# Altium footprint library IC.PcbLib: 15 footprints
Each footprint in its own frame and in the unit in brackets; x right, y up, seen from the top. Pads: shape width x height; smd on the part's side, far side on the other; paste and mask are expansions set on the pad; w line width, h text height; cw(c..) or ccw(c..) is an arc to the next point about the centre after c.
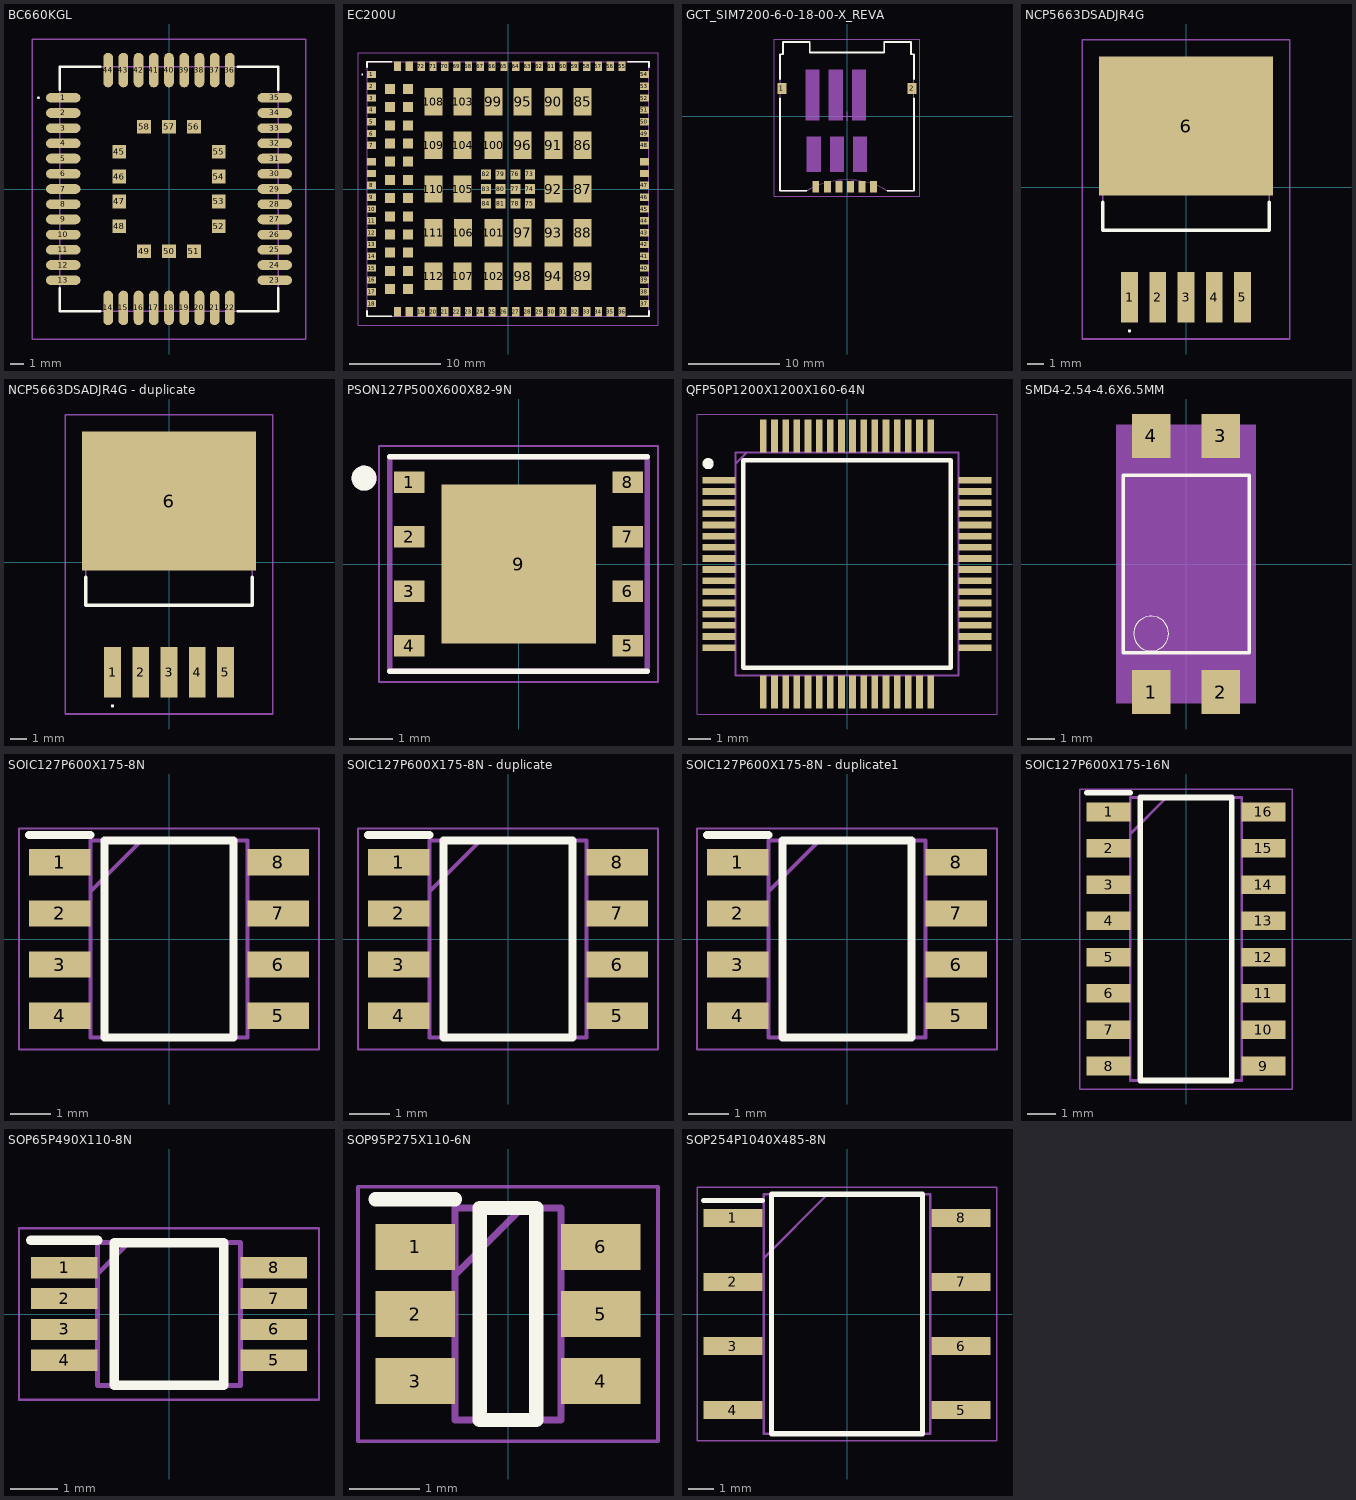
[diagram p0: the footprints below, top view; thin cyan lines are the x and y axes]

## BC660KGL [mm]
pads (58):
  oval 2.5x0.7 smd: 1(-7.65,6.6) 2(-7.65,5.5) 3(-7.65,4.4) 4(-7.65,3.3) 5(-7.65,2.2) 6(-7.65,1.1) 7(-7.65,0) 8(-7.65,-1.1) 9(-7.65,-2.2) 10(-7.65,-3.3) 11(-7.65,-4.4) 12(-7.65,-5.5) 13(-7.65,-6.6) 23(7.65,-6.6) 24(7.65,-5.5) 25(7.65,-4.4) 26(7.65,-3.3) 27(7.65,-2.2) 28(7.65,-1.1) 29(7.65,0) 30(7.65,1.1) 31(7.65,2.2) 32(7.65,3.3) 33(7.65,4.4) 34(7.65,5.5) 35(7.65,6.6)
  oval 0.7x2.5 smd: 14(-4.4,-8.6) 15(-3.3,-8.6) 16(-2.2,-8.6) 17(-1.1,-8.6) 18(0,-8.6) 19(1.1,-8.6) 20(2.2,-8.6) 21(3.3,-8.6) 22(4.4,-8.6) 36(4.4,8.6) 37(3.3,8.6) 38(2.2,8.6) 39(1.1,8.6) 40(0,8.6) 41(-1.1,8.6) 42(-2.2,8.6) 43(-3.3,8.6) 44(-4.4,8.6)
  rect 1x1 smd: 45(-3.6,2.7) 46(-3.6,0.9) 47(-3.6,-0.9) 48(-3.6,-2.7) 49(-1.8,-4.5) 50(0,-4.5) 51(1.8,-4.5) 52(3.6,-2.7) 53(3.6,-0.9) 54(3.6,0.9) 55(3.6,2.7) 56(1.8,4.5) 57(0,4.5) 58(-1.8,4.5)
Top Overlay:
  lines w0.1: -9.5,6.6 cw(c-9.45,6.6) -9.4,6.6 cw(c-9.45,6.6) -9.5,6.6
  lines w0.2: -7.9,-7.2 -7.9,-8.85 -5,-8.85 ; -7.9,7.2 -7.9,8.85 -5,8.85 ; 5,-8.85 7.9,-8.85 7.9,-7.2 ; 5,8.85 7.9,8.85 7.9,7.2
Mechanical 15:
  lines w0.1: -7.9,-8.85 7.9,-8.85 7.9,8.85 -7.9,8.85 -7.9,-8.85
Mechanical 20:
  lines w0.1: -9.9,-10.85 9.9,-10.85 9.9,10.85 -9.9,10.85 -9.9,-10.85
3D body "BC660KGLAA-I03-SNASA--3DModel-STEP-362385.STEP": height 1.98, standoff -0.02, extent -7.926,-8.89 7.874,8.81

## EC200U [mm]
pads (144):
  rect 1x0.8 smd: 1(-15,12.6) 2(-15,11.3) 3(-15,10) 4(-15,8.7) 5(-15,7.4) 6(-15,6.1) 7(-15,4.8) 8(-15,0.4) 9(-15,-0.9) 10(-15,-2.2) 11(-15,-3.5) 12(-15,-4.8) 13(-15,-6.1) 14(-15,-7.4) 15(-15,-8.7) 16(-15,-10) 17(-15,-11.3) 18(-15,-12.6) 37(15,-12.6) 38(15,-11.3) 39(15,-10) 40(15,-8.7) 41(15,-7.4) 42(15,-6.1) 43(15,-4.8) 44(15,-3.5) 45(15,-2.2) 46(15,-0.9) 47(15,0.4) 48(15,4.8) 49(15,6.1) 50(15,7.4) 51(15,8.7) 52(15,10) 53(15,11.3) 54(15,12.6) 141(-15,3) 142(-15,1.7) 143(15,1.7) 144(15,3)
  rect 0.8x1 smd: 19(-9.55,-13.5) 20(-8.25,-13.5) 21(-6.95,-13.5) 22(-5.65,-13.5) 23(-4.35,-13.5) 24(-3.05,-13.5) 25(-1.75,-13.5) 26(-0.45,-13.5) 27(0.85,-13.5) 28(2.15,-13.5) 29(3.45,-13.5) 30(4.75,-13.5) 31(6.05,-13.5) 32(7.35,-13.5) 33(8.65,-13.5) 34(9.95,-13.5) 35(11.25,-13.5) 36(12.55,-13.5) 55(12.55,13.5) 56(11.25,13.5) 57(9.95,13.5) 58(8.65,13.5) 59(7.35,13.5) 60(6.05,13.5) 61(4.75,13.5) 62(3.45,13.5) 63(2.15,13.5) 64(0.85,13.5) 65(-0.45,13.5) 66(-1.75,13.5) 67(-3.05,13.5) 68(-4.35,13.5) 69(-5.65,13.5) 70(-6.95,13.5) 71(-8.25,13.5) 72(-9.55,13.5) 113(-10.85,13.5) 114(-12.15,13.5) 115(-10.85,-13.5) 116(-12.15,-13.5)
  rect 1.1x1.1 smd: 73(2.4,1.6) 74(2.4,0) 75(2.4,-1.6) 76(0.8,1.6) 77(0.8,0) 78(0.8,-1.6) 79(-0.8,1.6) 80(-0.8,0) 81(-0.8,-1.6) 82(-2.4,1.6) 83(-2.4,0) 84(-2.4,-1.6) 117(-11,11) 118(-11,9) 119(-11,7) 120(-11,5) 121(-11,3) 122(-11,1) 123(-11,-1) 124(-11,-3) 125(-11,-5) 126(-11,-7) 127(-11,-9) 128(-11,-11) 129(-13,11) 130(-13,9) 131(-13,7) 132(-13,5) 133(-13,3) 134(-13,1) 135(-13,-1) 136(-13,-3) 137(-13,-5) 138(-13,-7) 139(-13,-9) 140(-13,-11)
  rect 2x3 smd: 85(8.2,9.6) 86(8.2,4.8) 87(8.2,0) 88(8.2,-4.8) 89(8.2,-9.6) 90(5,9.6) 91(5,4.8) 92(5,0) 93(5,-4.8) 94(5,-9.6) 95(1.6,9.6) 96(1.6,4.8) 97(1.6,-4.8) 98(1.6,-9.6) 99(-1.6,9.6) 100(-1.6,4.8) 101(-1.6,-4.8) 102(-1.6,-9.6) 103(-5,9.6) 104(-5,4.8) 105(-5,0) 106(-4.953,-4.826) 107(-5,-9.6) 108(-8.2,9.6) 109(-8.2,4.8) 110(-8.2,0) 111(-8.2,-4.8) 112(-8.2,-9.6)
Top Overlay:
  lines w0.1: -16.1,12.6 cw(c-16.05,12.6) -16,12.6 cw(c-16.05,12.6) -16.1,12.6
  lines w0.2: -15.5,-13.4 -15.5,-14 -12.8,-14 ; -15.5,13.4 -15.5,14 -12.8,14 ; 13.2,-14 15.5,-14 15.5,-13.4 ; 13.2,14 15.5,14 15.5,13.4
Mechanical 15:
  lines w0.1: -15.5,-14 15.5,-14 15.5,14 -15.5,14 -15.5,-14
Mechanical 20:
  lines w0.1: -16.5,-15 -16.5,15 16.5,15 16.5,-15 -16.5,-15
3D body "EC200U.stp": height 2, standoff -0.4, extent -15.5,-13.97 15.5,14.03

## GCT_SIM7200-6-0-18-00-X_REVA [mm]
pads (8):
  rect 1x1.2 smd: 1(-7.15,3.075) 2(7.15,3.075)
  rect 0.75x1.25 smd: C1(-2.16,-7.75) C2(0.38,-7.75) C3(2.92,-7.75) C5(-3.43,-7.75) C6(-0.89,-7.75) C7(1.65,-7.75)
Top Overlay:
  lines w0.2: -7.35,2 -7.35,-8.175 -4.42,-8.175 ; -7.35,4.1 -7.35,6.825 -7.025,6.825 -7.025,8.175 -4.095,8.175 -4.095,7.025 4.095,7.025 4.095,8.175 7.025,8.175 7.025,6.825 7.35,6.825 7.35,4.1 ; 4.42,-8.175 7.35,-8.175 7.35,2
Mechanical 13:
  lines w0.1: -4.42,-8.175 -7.35,-8.175 -7.35,6.825 -7.025,6.825 -7.025,8.175 -4.095,8.175 -4.095,7.025 4.095,7.025 4.095,8.175 7.025,8.175 7.025,6.825 7.35,6.825 7.35,-8.175 4.42,-8.175 ; -4.37,-8.146 cw(c0,-15.715) 4.37,-8.146
Mechanical 15:
  region: 2.18,-6.105 0.68,-6.105 0.68,-2.215 2.18,-2.215
  region: -0.49,-0.405 -1.99,-0.405 -1.99,5.095 -0.49,5.095
  region: -0.36,-6.105 -1.86,-6.105 -1.86,-2.215 -0.36,-2.215
  region: 2.05,-0.405 0.55,-0.405 0.55,5.095 2.05,5.095
  region: -2.9,-6.105 -4.4,-6.105 -4.4,-2.215 -2.9,-2.215
  region: -3.03,-0.405 -4.53,-0.405 -4.53,5.095 -3.03,5.095
  lines w0.05: -8,-8.75 8,-8.75 8,8.5 -8,8.5 -8,-8.75
  lines w0.1: -0.5,0 0.5,0 ; 0,-0.5 0,0.5
3D body "SIM7200-6-0-18-00-A.stp": height 2, standoff 0, extent -7.55,-8.514 7.55,8.285

## NCP5663DSADJR4G [mm]
pads (6):
  rect 1.016x3.05 smd: 1(-3.404,-6.613) 2(-1.702,-6.613) 3(0,-6.613) 4(1.702,-6.613) 5(3.404,-6.613)
  rect 10.49x8.38 smd: 6(0,3.693)
Top Overlay:
  lines w0.1: -3.404,-8.7 cw(c-3.404,-8.65) -3.404,-8.6 cw(c-3.404,-8.65) -3.404,-8.7
  lines w0.2: -5.01,-0.887 -5.01,-2.583 5.01,-2.583 5.01,-0.887
Mechanical 15:
  lines w0.1: -5.01,-2.583 -5.01,6.613 5.01,6.613 5.01,-2.583 -5.01,-2.583
Mechanical 20:
  lines w0.1: -6.245,-9.137 -6.245,8.883 6.245,8.883 6.245,-9.137 -6.245,-9.137
3D body "NCP5663DSADJR4G.STEP": height 4.57, standoff 0, extent -5.067,-6.845 5.08,7.353

## NCP5663DSADJR4G - duplicate [mm]
pads (6):
  rect 1.016x3.05 smd: 1(-3.404,-6.613) 2(-1.702,-6.613) 3(0,-6.613) 4(1.702,-6.613) 5(3.404,-6.613)
  rect 10.49x8.38 smd: 6(0,3.693)
Top Overlay:
  lines w0.1: -3.404,-8.7 cw(c-3.404,-8.65) -3.404,-8.6 cw(c-3.404,-8.65) -3.404,-8.7
  lines w0.2: -5.01,-0.887 -5.01,-2.583 5.01,-2.583 5.01,-0.887
Mechanical 15:
  lines w0.1: -5.01,-2.583 -5.01,6.613 5.01,6.613 5.01,-2.583 -5.01,-2.583
Mechanical 20:
  lines w0.1: -6.245,-9.137 -6.245,8.883 6.245,8.883 6.245,-9.137 -6.245,-9.137
3D body "NCP5663DSADJR4G.STEP": height 4.57, standoff 0, extent -5.067,-6.845 5.08,7.353

## PSON127P500X600X82-9N [mm]
pads (9):
  rect 0.71x0.51 smd: 1(-2.55,1.905) 2(-2.55,0.635) 3(-2.55,-0.635) 4(-2.55,-1.905) 5(2.55,-1.905) 6(2.55,-0.635) 7(2.55,0.635) 8(2.55,1.905)
  rect 3.6x3.7 smd paste-3: 9(0,0)
Top Overlay:
  circle w0.3: c-3.6,2 r0.141
  lines w0.127: -3,-2.5 3,-2.5 ; -3,2.5 3,2.5
Top Paste:
  region: -0.18,0.18 -1.5,0.18 -1.5,1.45 -0.18,1.45
  region: 1.5,0.18 0.18,0.18 0.18,1.45 1.5,1.45
  region: -0.18,-1.45 -1.5,-1.45 -1.5,-0.18 -0.18,-0.18
  region: 1.5,-1.45 0.18,-1.45 0.18,-0.18 1.5,-0.18
Mechanical 13:
  circle w0.3: c-3.6,2 r0.141
  lines w0.127: -3,-2.5 3,-2.5 3,2.5 -3,2.5 -3,-2.5
Mechanical 15:
  lines w0.05: -3.25,-2.75 3.25,-2.75 3.25,2.75 -3.25,2.75 -3.25,-2.75
3D body "SIM-ST-MFF2--3DModel-STEP-56544.STEP": height 0.82, standoff 0, extent -3,-2.46 3,2.54

## QFP50P1200X1200X160-64N [mm]
pads (64):
  rect 1.475x0.3 smd: 1(-5.738,3.75) 2(-5.738,3.25) 3(-5.738,2.75) 4(-5.738,2.25) 5(-5.738,1.75) 6(-5.738,1.25) 7(-5.738,0.75) 8(-5.738,0.25) 9(-5.738,-0.25) 10(-5.738,-0.75) 11(-5.738,-1.25) 12(-5.738,-1.75) 13(-5.738,-2.25) 14(-5.738,-2.75) 15(-5.738,-3.25) 16(-5.738,-3.75) 33(5.738,-3.75) 34(5.738,-3.25) 35(5.738,-2.75) 36(5.738,-2.25) 37(5.738,-1.75) 38(5.738,-1.25) 39(5.738,-0.75) 40(5.738,-0.25) 41(5.738,0.25) 42(5.738,0.75) 43(5.738,1.25) 44(5.738,1.75) 45(5.738,2.25) 46(5.738,2.75) 47(5.738,3.25) 48(5.738,3.75)
  rect 0.3x1.475 smd: 17(-3.75,-5.738) 18(-3.25,-5.738) 19(-2.75,-5.738) 20(-2.25,-5.738) 21(-1.75,-5.738) 22(-1.25,-5.738) 23(-0.75,-5.738) 24(-0.25,-5.738) 25(0.25,-5.738) 26(0.75,-5.738) 27(1.25,-5.738) 28(1.75,-5.738) 29(2.25,-5.738) 30(2.75,-5.738) 31(3.25,-5.738) 32(3.75,-5.738) 49(3.75,5.738) 50(3.25,5.738) 51(2.75,5.738) 52(2.25,5.738) 53(1.75,5.738) 54(1.25,5.738) 55(0.75,5.738) 56(0.25,5.738) 57(-0.25,5.738) 58(-0.75,5.738) 59(-1.25,5.738) 60(-1.75,5.738) 61(-2.25,5.738) 62(-2.75,5.738) 63(-3.25,5.738) 64(-3.75,5.738)
Top Overlay:
  circle w0.25: c-6.225,4.5 r0.125
  lines w0.2: -4.65,-4.65 4.65,-4.65 4.65,4.65 -4.65,4.65 -4.65,-4.65
Mechanical 15:
  lines w0.1: -5,4.5 -4.5,5 ; -5,-5 5,-5 5,5 -5,5 -5,-5
Mechanical 20:
  lines w0.05: -6.725,-6.725 6.725,-6.725 6.725,6.725 -6.725,6.725 -6.725,-6.725
3D body "GD32F303RGT6.stp": height 1.6, standoff 0, extent -6,-6 6,6

## SMD4-2.54-4.6X6.5MM [mm]
pads (4):
  rect 1.4x1.6 smd: 1(-1.27,-4.68) 2(1.27,-4.68) 3(1.27,4.68) 4(-1.27,4.68)
Top Overlay:
  circle w0: c-1.27,-2.54 r0.635
  lines w0.127: -2.3,-3.25 2.3,-3.25 2.3,3.25 -2.3,3.25 -2.3,-3.25
Mechanical 13:
  region: -0.67,3.175 -1.87,3.175 -1.87,5.08 -0.67,5.08
  region: 1.87,3.175 0.67,3.175 0.67,5.08 1.87,5.08
  region: -0.67,-5.08 -1.87,-5.08 -1.87,-3.3 -0.67,-3.3
  region: 1.87,-5.08 0.67,-5.08 0.67,-3.3 1.87,-3.3
Mechanical 15:
  region: 2.54,-5.09 -2.545,-5.09 -2.545,5.08 2.54,5.08
3D body "step_temp.STEP": height 4.59, standoff -0.01, extent -2.3,-5.08 2.3,5.08

## SOIC127P600X175-8N [mm]
pads (8):
  rect 1.525x0.65 smd: 1(-2.712,1.905) 2(-2.712,0.635) 3(-2.712,-0.635) 4(-2.712,-1.905) 5(2.712,-1.905) 6(2.712,-0.635) 7(2.712,0.635) 8(2.712,1.905)
Top Overlay:
  lines w0.2: -3.475,2.58 -1.95,2.58 ; -1.6,-2.45 -1.6,2.45 1.6,2.45 1.6,-2.45 -1.6,-2.45
Mechanical 15:
  lines w0.1: -1.95,1.18 -0.68,2.45 ; -1.95,-2.45 -1.95,2.45 1.95,2.45 1.95,-2.45 -1.95,-2.45
Mechanical 20:
  lines w0.05: -3.725,-2.75 -3.725,2.75 3.725,2.75 3.725,-2.75 -3.725,-2.75
3D body "DS1340Z-3+.stp": height 1.75, standoff 0, extent -2.873,-2.45 3.127,2.45

## SOIC127P600X175-8N - duplicate [mm]
pads (8):
  rect 1.525x0.65 smd: 1(-2.712,1.905) 2(-2.712,0.635) 3(-2.712,-0.635) 4(-2.712,-1.905) 5(2.712,-1.905) 6(2.712,-0.635) 7(2.712,0.635) 8(2.712,1.905)
Top Overlay:
  lines w0.2: -3.475,2.58 -1.95,2.58 ; -1.6,-2.45 1.6,-2.45 1.6,2.45 -1.6,2.45 -1.6,-2.45
Mechanical 15:
  lines w0.1: -1.95,1.18 -0.68,2.45 ; -1.95,-2.45 1.95,-2.45 1.95,2.45 -1.95,2.45 -1.95,-2.45
Mechanical 20:
  lines w0.05: -3.725,-2.75 3.725,-2.75 3.725,2.75 -3.725,2.75 -3.725,-2.75
3D body "DS1340Z-3+.stp": height 1.75, standoff 0, extent -2.873,-2.45 3.127,2.45

## SOIC127P600X175-8N - duplicate1 [mm]
pads (8):
  rect 1.525x0.65 smd: 1(-2.712,1.905) 2(-2.712,0.635) 3(-2.712,-0.635) 4(-2.712,-1.905) 5(2.712,-1.905) 6(2.712,-0.635) 7(2.712,0.635) 8(2.712,1.905)
Top Overlay:
  lines w0.2: -3.475,2.58 -1.95,2.58 ; -1.6,-2.45 1.6,-2.45 1.6,2.45 -1.6,2.45 -1.6,-2.45
Mechanical 15:
  lines w0.1: -1.95,1.18 -0.68,2.45 ; -1.95,-2.45 1.95,-2.45 1.95,2.45 -1.95,2.45 -1.95,-2.45
Mechanical 20:
  lines w0.05: -3.725,-2.75 3.725,-2.75 3.725,2.75 -3.725,2.75 -3.725,-2.75
3D body "DS1340Z-3+.stp": height 1.75, standoff 0, extent -2.873,-2.45 3.127,2.45

## SOIC127P600X175-16N [mm]
pads (16):
  rect 1.525x0.65 smd: 1(-2.712,4.445) 2(-2.712,3.175) 3(-2.712,1.905) 4(-2.712,0.635) 5(-2.712,-0.635) 6(-2.712,-1.905) 7(-2.712,-3.175) 8(-2.712,-4.445) 9(2.712,-4.445) 10(2.712,-3.175) 11(2.712,-1.905) 12(2.712,-0.635) 13(2.712,0.635) 14(2.712,1.905) 15(2.712,3.175) 16(2.712,4.445)
Top Overlay:
  lines w0.2: -3.475,5.12 -1.95,5.12 ; -1.6,-4.95 1.6,-4.95 1.6,4.95 -1.6,4.95 -1.6,-4.95
Mechanical 15:
  lines w0.1: -1.95,3.68 -0.68,4.95 ; -1.95,-4.95 1.95,-4.95 1.95,4.95 -1.95,4.95 -1.95,-4.95
Mechanical 20:
  lines w0.05: -3.725,-5.25 3.725,-5.25 3.725,5.25 -3.725,5.25 -3.725,-5.25
3D body "ULN2003ADRG3.stp": height 1.75, standoff 0, extent -3.013,-4.95 3.013,4.95

## SOP65P490X110-8N [mm]
pads (8):
  rect 1.4x0.45 smd: 1(-2.2,0.975) 2(-2.2,0.325) 3(-2.2,-0.325) 4(-2.2,-0.975) 5(2.2,-0.975) 6(2.2,-0.325) 7(2.2,0.325) 8(2.2,0.975)
Top Overlay:
  lines w0.2: -2.9,1.55 -1.5,1.55 ; -1.15,-1.5 -1.15,1.5 1.15,1.5 1.15,-1.5 -1.15,-1.5
Mechanical 15:
  lines w0.1: -1.5,0.85 -0.85,1.5 ; -1.5,-1.5 -1.5,1.5 1.5,1.5 1.5,-1.5 -1.5,-1.5
Mechanical 20:
  lines w0.05: -3.15,-1.8 -3.15,1.8 3.15,1.8 3.15,-1.8 -3.15,-1.8
3D body "INA826AIDGKR.stp": height 1.1, standoff 0, extent -2.451,-1.498 2.451,1.499

## SOP95P275X110-6N [mm]
pads (6):
  rect 1.125x0.65 smd: 1(-1.312,0.95) 2(-1.312,0) 3(-1.312,-0.95) 4(1.312,-0.95) 5(1.312,0) 6(1.312,0.95)
Top Overlay:
  lines w0.2: -1.875,1.625 -0.75,1.625 ; -0.4,-1.5 0.4,-1.5 0.4,1.5 -0.4,1.5 -0.4,-1.5
Mechanical 15:
  lines w0.1: -0.75,0.55 0.2,1.5 ; -0.75,-1.5 0.75,-1.5 0.75,1.5 -0.75,1.5 -0.75,-1.5
Mechanical 20:
  lines w0.05: -2.125,-1.8 2.125,-1.8 2.125,1.8 -2.125,1.8 -2.125,-1.8
3D body "SZNUP4114HMR6T1G.STEP": height 1.1, standoff 0, extent -1.375,-1.5 1.375,1.5

## SOP254P1040X485-8N [mm]
pads (8):
  rect 2.35x0.7 smd: 1(-4.525,3.81) 2(-4.525,1.27) 3(-4.525,-1.27) 4(-4.525,-3.81) 5(4.525,-3.81) 6(4.525,-1.27) 7(4.525,1.27) 8(4.525,3.81)
Top Overlay:
  lines w0.2: -5.7,4.51 -3.35,4.51 ; -3,-4.75 3,-4.75 3,4.75 -3,4.75 -3,-4.75
Mechanical 15:
  lines w0.1: -3.31,2.21 -0.77,4.75 ; -3.31,-4.75 3.31,-4.75 3.31,4.75 -3.31,4.75 -3.31,-4.75
Mechanical 20:
  lines w0.05: -5.95,-5.025 5.95,-5.025 5.95,5.025 -5.95,5.025 -5.95,-5.025
3D body "ISO1050DUB.stp": height 3.68, standoff 0, extent -5.083,-4.575 5.337,4.575